# Altium schematic symbol library Basic_lib.SchLib: 5 symbols
Pins are listed as number, name and electrical type; pins without a type are passive.

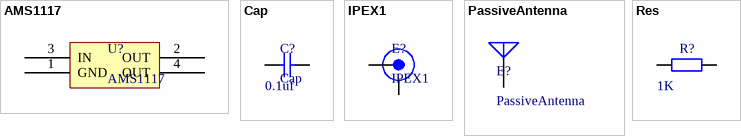
[diagram p0: symbols AMS1117 to Res]

## AMS1117
designator U?
footprint AMS1117 (SOT-223)
pins: 1 GND, 2 OUT, 3 IN, 4 OUT

## Cap
designator C?  value 0.1uf
footprint C0201 (Chip Capacitor, 2-Leads, Body 0.60x0.30mm, IPC Medium Density)
footprint C0402 (Chip Capacitor, 2-Leads, Body 1.00x0.50mm, IPC Medium Density)
footprint C0603 (Chip Capacitor, 2-Leads, Body 1.60x0.81mm, IPC Medium Density)
footprint C0805 (Chip Capacitor, 2-Leads, Body 2.01x1.25mm, IPC Medium Density)
footprint C1206 (Chip Capacitor, 2-Leads, Body 3.20x1.60mm, IPC Medium Density)
footprint C1210 (Chip Capacitor, 2-Leads, Body 3.20x2.50mm, IPC Medium Density)
footprint C1812 (Chip Capacitor, 2-Leads, Body 4.50x3.20mm, IPC Medium Density)
footprint C2225 (Chip Capacitor, 2-Leads, Body 5.72x6.40mm, IPC Medium Density)
pins: 1, 2

## IPEX1
designator E?
footprint IPEX1
pins: 1 ANT, 2 GND

## PassiveAntenna
designator E?
无源天线25x25
footprint PassiveAntenna25x25 (无源天线25x25)
pins: 1

## Res
designator R?  value 1K  (hidden comment: Res)
footprint R0201 (Chip Resistor, 2-Leads, Body 0.60x0.30mm, IPC Medium Density)
footprint R0402 (Chip Resistor, 2-Leads, Body 1.00x0.50mm, IPC Medium Density)
footprint R0603 (Chip Resistor, 2-Leads, Body 1.60x0.80mm, IPC Medium Density)
footprint R0805 (Chip Resistor, 2-Leads, Body 2.00x1.25mm, IPC Medium Density)
footprint R1206 (Chip Resistor, 2-Leads, Body 3.20x1.60mm, IPC Medium Density)
footprint R1210 (Chip Resistor, 2-Leads, Body 3.20x2.50mm, IPC Medium Density)
footprint R1812 (Chip Resistor, 2-Leads, Body 4.50x3.20mm, IPC Medium Density)
pins: 1, 2